# Altium footprint library TDK_VLS3012HBX.PcbLib: 1 footprints
Each footprint in its own frame and in the unit in brackets; x right, y up, seen from the top. Pads: shape width x height; smd on the part's side, far side on the other; paste and mask are expansions set on the pad; w line width, h text height; cw(c..) or ccw(c..) is an arc to the next point about the centre after c.
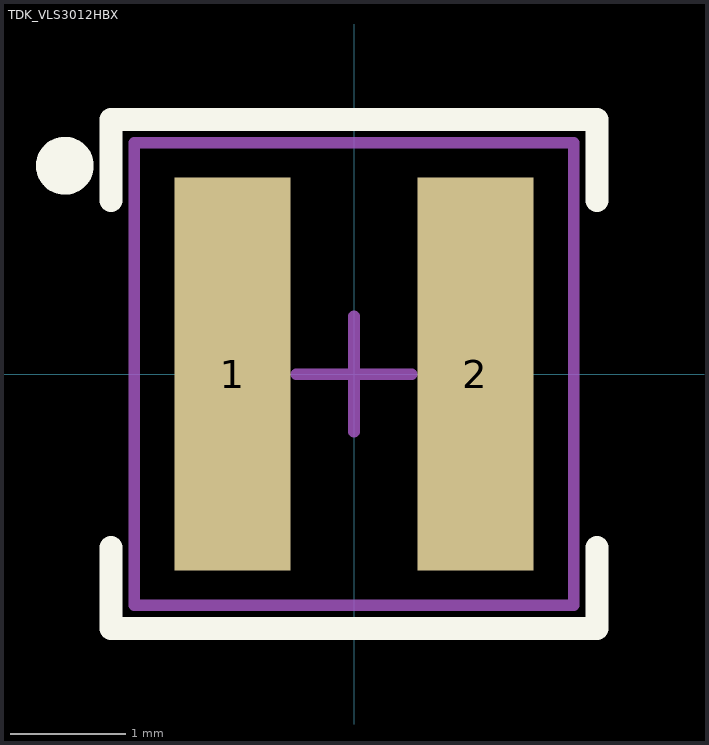
[diagram p0: the footprint, top view; thin cyan lines are the x and y axes]

## TDK_VLS3012HBX [mm] "Power inductor,  shielded, 3.0 x 3.0 x 1.2 mm"
height 2
pads (2):
  rect 1x3.4 smd: 1(-1.05,0) 2(1.05,0)
Top Overlay:
  circle w0.25: c-2.5,1.8 r0.125
  lines w0.2: -2.1,-1.5 -2.1,-2.2 2.1,-2.2 2.1,-1.5 ; -2.1,1.5 -2.1,2.2 2.1,2.2 2.1,1.5
Top Assembly:
  lines w0.1: -1.9,-2 1.9,-2 1.9,2 -1.9,2 -1.9,-2
Top Courtyard:
  lines w0.1: -1.9,-2 -1.9,2 1.9,2 1.9,-2 -1.9,-2
Top Component Center:
  lines w0.1: -0.5,0 0.5,0 ; 0,-0.5 0,0.5
3D body "vls3012hbx.step": height 1.19, standoff -0.01, extent -1.502,-1.509 1.502,1.509